# Altium schematic symbol library ACS712-20.SchLib: 1 symbol
Pins are listed as number, name and electrical type; pins without a type are passive.

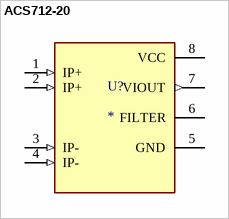
[diagram p0: symbol ACS712-20]

## ACS712-20
designator U?
ACS712: Fully Integrated, Hall-Effect-Based Linear Current Sensor IC with 2.1 kV RMS Voltage Isolation and a Low-Resistance Current Conductor; MF: Allegro MicroSystems; MP: ACS712-20; SnapEDA_Link: https://www.snapeda.com/parts/ACS712-20/Allegro/view-part/?ref=snap; Package: SOIC-8 Allegro MicroSystems LLC; Value: *; Check_prices: https://www.snapeda.com/parts/ACS712-20/Allegro/view-part/?ref=eda
footprint SOIC127P600X175-8N
pins: 1 IP+ (in), 2 IP+ (in), 3 IP- (in), 4 IP- (in), 5 GND (power), 6 FILTER, 7 VIOUT (out), 8 VCC (power)